# Altium schematic symbol library Hi_lib.SchLib: 2 symbols
Pins are listed as number, name and electrical type; pins without a type are passive.

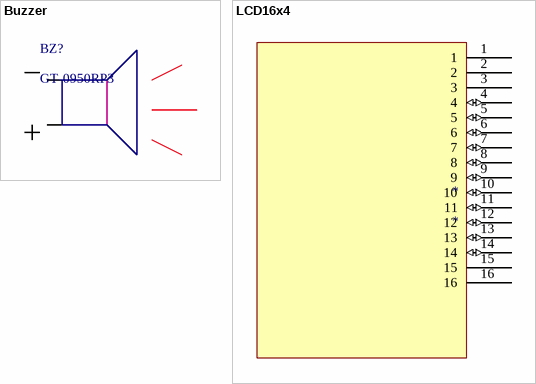
[diagram p0: symbols Buzzer to LCD16x4]

## Buzzer
designator BZ?, comment GT-0950RP3
AUDIO MAGNETICXDCR
footprint PCBComponent_1
footprint PCBComponent_1
pins: 1, 2
4 alternate drawings of the same symbol

## LCD16x4
designator *
footprint PCBComponent_1
pins: 1 (power), 2 (power), 3 (power), 4 (io), 5 (io), 6 (io), 7 (io), 8 (io), 9 (io), 10 (io), 11 (io), 12 (io), 13 (io), 14 (io), 15 (power), 16 (power)